# Altium schematic symbol library dipswitch.SchLib: 1 symbol
Pins are listed as number, name and electrical type; pins without a type are passive.

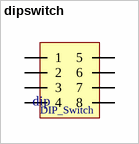
[diagram p0: symbol dipswitch]

## dipswitch
designator dip  (value not drawn)
footprint CTS 218-2LPJ (DIP, 2 POS, Body 3.71x6.05mm, Pitch 1.27mm, IPC Medium Density)
pins: 1, 2, 3, 4, 5, 6, 7, 8
text: DIP_Switch